# Altium schematic symbol library Test Point 2mm.SchLib: 1 symbol
Pins are listed as number, name and electrical type; pins without a type are passive.

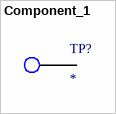
[diagram p0: symbol Component_1]

## Component_1
designator TP?
footprint PCBComponent_1
pins: 1